# EAGLE library part PUSH_SW_LED (library Switch)
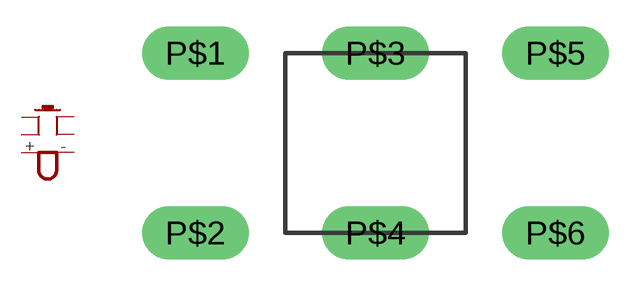
[diagram p0: symbol with the pads of PUSH_SW_LED; footprint PUSH_SW_LED]

Designator prefix -

## PUSH_SW_LED  [PUSH_SW_LED]
P$1  P1
P$2  P2
P$3  PI
P$4  PO
P$5  P3
P$6  P4

## Footprint PUSH_SW_LED (pad centres in mm)
drill 1 long: P$1 2.54,7.62; P$2 2.54,2.54; P$3 7.62,7.62; P$4 7.62,2.54; P$5 12.7,7.62; P$6 12.7,2.54